# EAGLE library part VFD-IND-DUO (library mynixies)
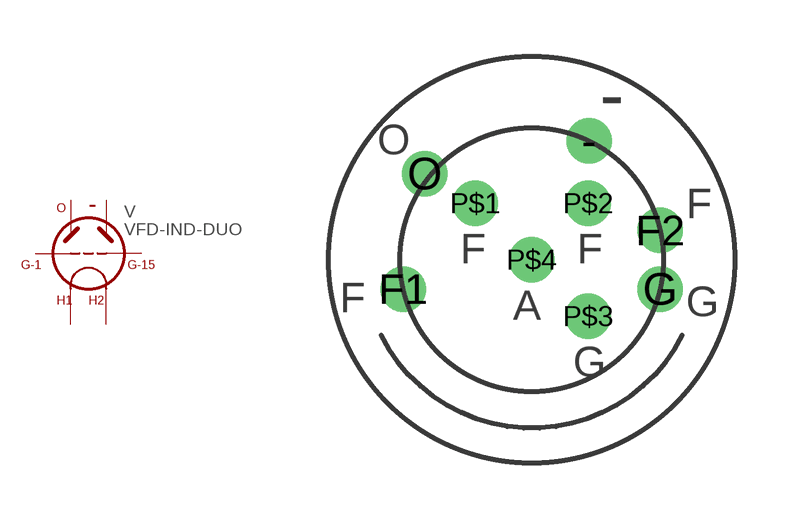
[diagram p33: symbol with the pads of VFD-IND-DUO; footprint VFD-IND-DUO]

Designator prefix V

## VFD-IND-DUO  [VFD-IND-DUO]
-  -  pas
F1  H1  pas
F2  H2  pas
G  G1  pas
O  O  pas
P$1  H1  pas
P$2  H2  pas
P$3  G15  pas
P$4  O  pas

## Footprint VFD-IND-DUO (pad centres in mm)
drill 0.7: - 1.521,3.152; F1 -3.412,-0.779; F2 3.413,0.777; G 3.412,-0.78; O -2.835,2.285; P$1 -1.5,1.5; P$2 1.5,1.5; P$3 1.5,-1.5; P$4 0,0